# Altium schematic symbol library EVM-3ESX50B14.SchLib: 1 symbol
Pins are listed as number, name and electrical type; pins without a type are passive.

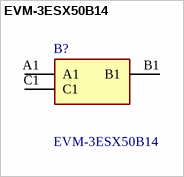
[diagram p0: symbol EVM-3ESX50B14]

## EVM-3ESX50B14
designator B?
Variable Resistors +/-25% 10KOhms +/-250 ppm/C SMD RoHS; Manufacturer_Name: Panasonic; Geometry.Height: 1.62mm; Manufacturer_Part_Number: EVM-3ESX50B14; Mouser Part Number: 667-EVM-3ESX50B14; Mouser Price/Stock: https://www.mouser.co.uk/ProductDetail/Panasonic/EVM-3ESX50B14?qs=W5Ux%2F5YWIN6KGDoxXL8LqQ%3D%3D; Arrow Part Number: *; Arrow Price/Stock: *; Datasheet Link: https://industrial.panasonic.com/cdbs/www-data/pdf/AOI0000/AOI0000C51.pdf
footprint EVM3ESX50B14
pins: A1, B1, C1